# Altium footprint library standard-case.PcbLib: 69 footprints (part 1 of 5)
Each footprint in its own frame and in the unit in brackets; x right, y up, seen from the top. Pads: shape width x height; smd on the part's side, far side on the other; paste and mask are expansions set on the pad; w line width, h text height; cw(c..) or ccw(c..) is an arc to the next point about the centre after c.
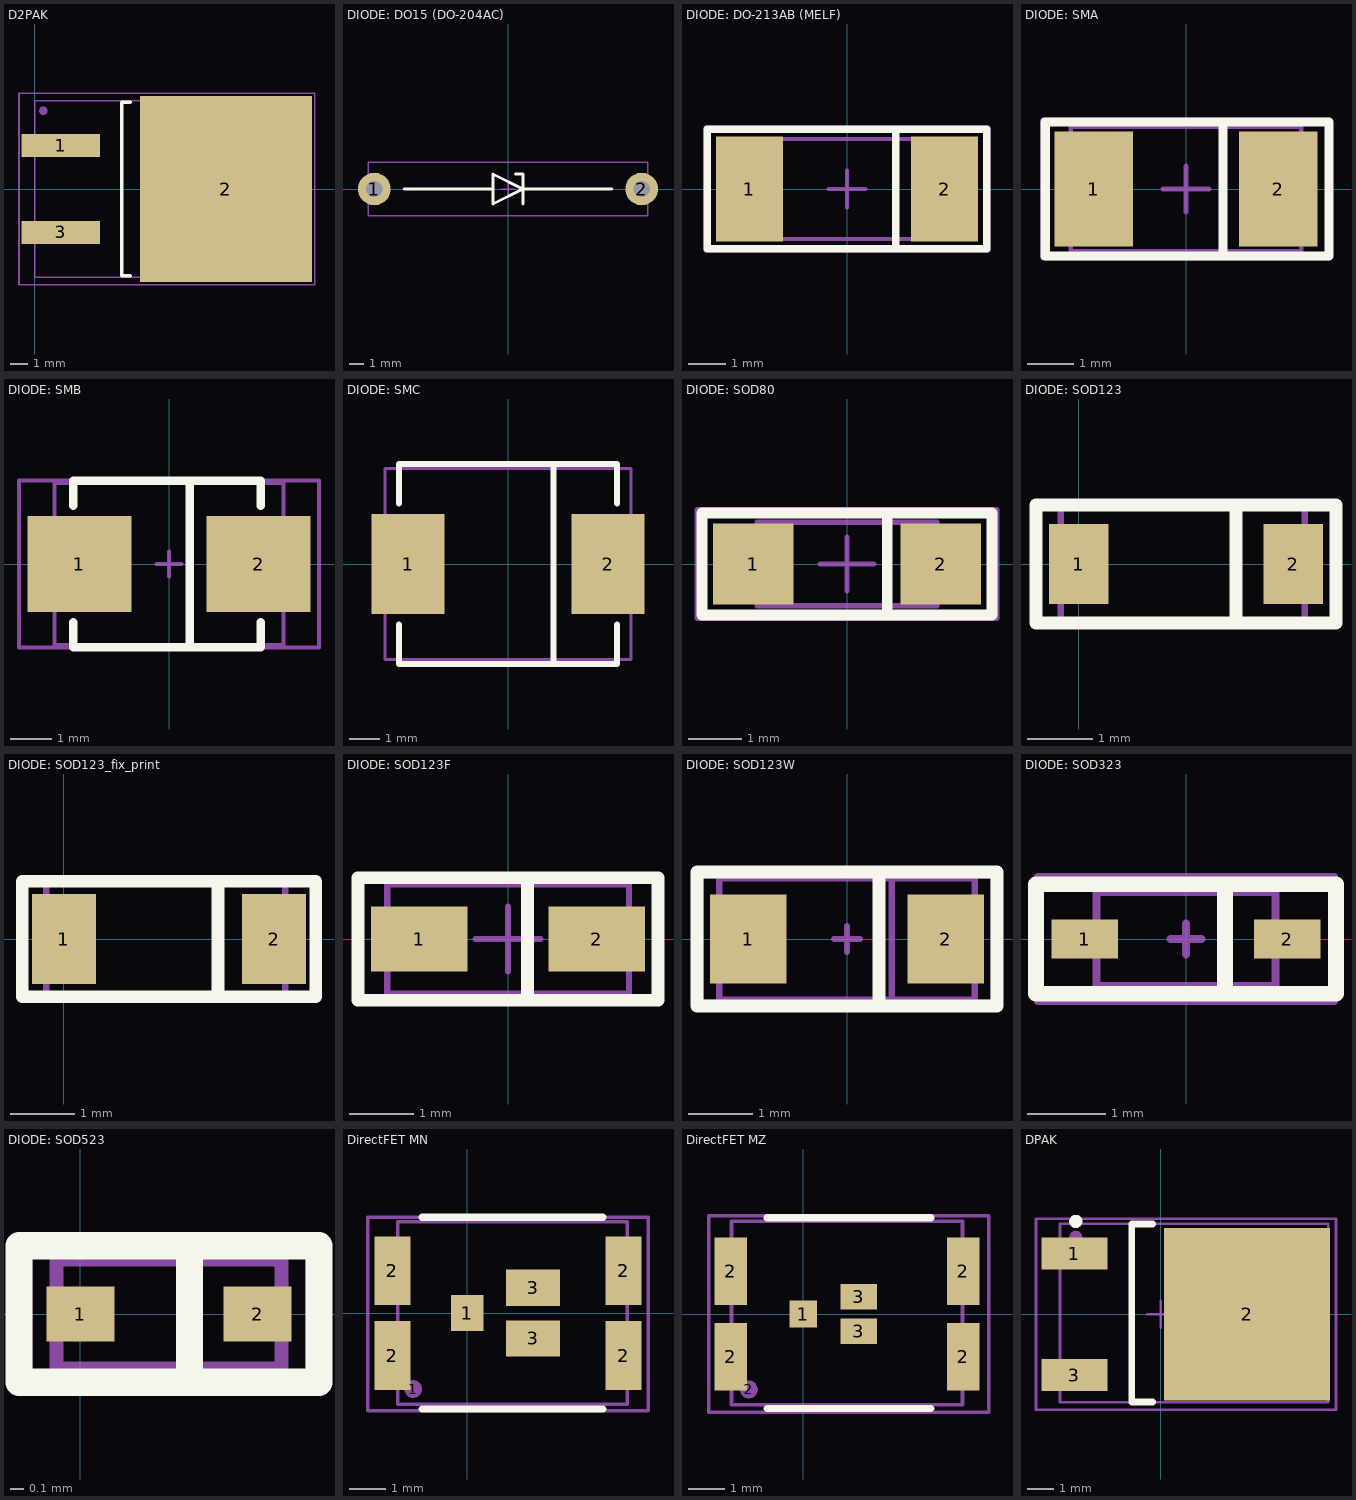
[diagram p0: the footprints below, top view; thin cyan lines are the x and y axes]

## D2PAK [mm]
height 2.38
pads (4):
  rect 4.5x1.3 smd: 1(1.5,2.5) 3(1.5,-2.5)
  rect 9.9x10.7 smd: 2(11,0)
  round 0.5 on Mech1: ""(0.5,4.5)
Top Overlay:
  lines w0.2: 5.5,-5 5,-5 5,5 5.5,5
Mechanical 1:
  lines w0.1: 0,-5.08 15.264,-5.08 15.264,5.08 0,5.08 0,-5.08
Mechanical 15:
  lines w0.1: -0.9,-5.5 16.1,-5.5 16.1,5.5 -0.9,5.5 -0.9,-5.5
3D body "User Library-DPAK.STEP": height 4.88, standoff -0.13, extent 0,-5.08 15.264,5.08

## DIODE: DO15 (DO-204AC) [mm]
pads (2):
  round 2.2 hole 1.1 mask+0.075: 1(-9,0) 2(9,0)
Top Overlay:
  lines w0.2: -7,0 -1,0 -1,1 ; 0.5,1 1,1 1,-1 ; 7,0 1,0 ; -1,1 -1,-1 1,0 ; -1,1 1,0
Mechanical 1:
  lines w0.1: -7,0 -1,0 -1,1 ; 0.5,1 1,1 1,-1 ; 7,0 1,0 ; -1,1 -1,-1 1,0 ; -1,1 1,0 ; -9.4,-1.8 9.4,-1.8 9.4,1.8 -9.4,1.8 -9.4,-1.8
Mechanical 15:
  lines w0.1: -0.5,0 0.5,0 ; 0,-0.5 0,0.5 ; -9.4,-1.8 -9.4,1.8 9.4,1.8 9.4,-1.8 -9.4,-1.8
3D body "User Library-DO-15-70.STEP": height 3.53, standoff -2, extent -9.415,-1.749 9.415,1.748

## DIODE: DO-213AB (MELF) [mm] "MELF Diode, 2-Leads, Body 5,01x2,53mm, IPC Medium Density"
height 2.67
pads (2):
  rect 1.8x2.8 smd: 1(-2.6,0) 2(2.6,0)
Top Overlay:
  lines w0.2: 1.3,-1.6 1.3,1.6 ; -3.725,-1.6 3.725,-1.6 3.725,1.6 -3.725,1.6 -3.725,-1.6
Mechanical 1:
  lines w0.1: -2.605,-1.335 -2.605,1.335 2.605,1.335 2.605,-1.335 -2.605,-1.335
Mechanical 15:
  lines w0.1: -0.5,0 0.5,0 ; 0,-0.5 0,0.5 ; -3.775,-1.65 -3.775,1.65 3.775,1.65 3.775,-1.65 -3.775,-1.65
3D body "User Library-MELF DO213AB.STEP": height 2.6, standoff 0, extent -2.4,-1.3 2.4,1.3

## DIODE: SMA [mm]
pads (3):
  rect 1.7x2.5 smd: 1(-2,0) 2(2,0)
  round 0.5 on Mech1: ""(2,0.9)
Top Overlay:
  lines w0.2: 0.8,-1.45 0.8,1.45 ; -3.05,-1.45 -3.05,1.45 3.1,1.45 3.1,-1.45 -3.05,-1.45
Mechanical 1:
  lines w0.1: -2.5,-1.35 -2.5,1.35 2.5,1.35 2.5,-1.35 -2.5,-1.35
Mechanical 15:
  lines w0.1: -0.5,0 0.5,0 ; 0,-0.5 0,0.5 ; -3.1,-1.5 3.1,-1.5 3.1,1.5 -3.1,1.5 -3.1,-1.5
3D body "User Library-Diode Molded BodyDIOM5025X231N.STEP": height 2.28, standoff -0.03, extent -2.5,-1.35 2.5,1.35

## DIODE: SMB [mm]
pads (2):
  rect 2.5x2.3 smd: 1(-2.15,0) 2(2.15,0)
Top Overlay:
  lines w0.2: -2.3,-1.4 -2.3,-2 2.2,-2 2.2,-1.4 ; -2.3,1.4 -2.3,2 2.2,2 2.2,1.4 ; 0.5,-2 0.5,2
Mechanical 1:
  lines w0.1: 0.5,-1.95 0.5,1.95 ; -2.75,-1.95 -2.75,1.95 2.75,1.95 2.75,-1.95 -2.75,-1.95
Mechanical 15:
  lines w0.1: -0.3,0 0.3,0 ; 0,-0.3 0,0.3 ; -3.6,-2 3.6,-2 3.6,2 -3.6,2 -3.6,-2
3D body "User Library-DIOM5539X24.STEP": height 2.45, standoff 0.03, extent -2.75,-1.95 2.75,1.95

## DIODE: SMC [mm]
pads (2):
  rect 2.4x3.3 smd: 1(-3.3,0) 2(3.3,0)
Top Overlay:
  lines w0.2: -3.6,-2 -3.6,-3.3 3.6,-3.3 3.6,-2 ; -3.6,2 -3.6,3.3 3.6,3.3 3.6,2 ; 1.5,-3.3 1.5,3.3
Mechanical 1:
  lines w0.1: 1.5,-3.15 1.5,3.15 ; -4.064,-3.15 -4.064,3.15 4.064,3.15 4.064,-3.15 -4.064,-3.15
3D body "User Library-DO-214AB(SMC).STEP": height 2.67, standoff 0.03, extent -4.064,-3.15 4.064,3.15

## DIODE: SOD80 [mm]
height 2
pads (2):
  rect 1.5x1.5 smd: 1(-1.75,0) 2(1.75,0)
Top Overlay:
  lines w0.2: 0.75,-0.925 0.75,0.925 ; -2.7,-0.95 2.7,-0.95 2.7,0.95 -2.7,0.95 -2.7,-0.95
Mechanical 1:
  lines w0.1: 0.75,-0.775 0.75,0.775 ; -1.676,-0.775 1.675,-0.775 1.675,0.775 -1.676,0.775 -1.676,-0.775
Mechanical 15:
  lines w0.1: -0.5,0 0.5,0 ; 0,-0.5 0,0.5 ; -2.794,-1.016 -2.794,1.016 2.794,1.016 2.794,-1.016 -2.794,-1.016
3D body "SOD80-2.step": height 1.52, standoff -0.02, extent -1.676,-0.777 1.677,0.762

## DIODE: SOD123 [mm]
pads (2):
  rect 0.91x1.22 smd: 1(0,0) 2(3.275,0)
Top Overlay:
  lines w0.2: 2.4,-0.9 2.4,0.9 ; -0.65,-0.9 -0.65,0.9 3.925,0.9 3.925,-0.9 -0.65,-0.9
Mechanical 1:
  lines w0.1: 2.4,-0.9 2.4,0.9 ; -0.275,-0.9 -0.275,0.9 3.45,0.9 3.45,-0.9 -0.275,-0.9
Mechanical 15:
  lines w0.1: -0.65,-0.9 -0.65,0.9 3.925,0.9 3.925,-0.9 -0.65,-0.9
3D body "User Library-SOD-123.STEP": height 1.25, standoff 0, extent -0.249,-0.8 3.449,0.8

## DIODE: SOD123_fix_print [mm]
pads (2):
  rect 1x1.4 smd: 1(0,0) 2(3.275,0)
Top Overlay:
  lines w0.2: 2.4,-0.9 2.4,0.9 ; -0.65,-0.9 3.925,-0.9 3.925,0.9 -0.65,0.9 -0.65,-0.9
Mechanical 1:
  lines w0.1: 2.4,-0.9 2.4,0.9 ; -0.275,-0.9 3.45,-0.9 3.45,0.9 -0.275,0.9 -0.275,-0.9
Mechanical 15:
  lines w0.1: -0.65,-0.9 3.925,-0.9 3.925,0.9 -0.65,0.9 -0.65,-0.9
3D body "User Library-SOD-123.STEP": height 1.25, standoff 0, extent -0.249,-0.8 3.449,0.8

## DIODE: SOD123F [mm]
height 1
pads (2):
  rect 1.5x1 smd: 1(-1.375,0) 2(1.375,0)
Top Overlay:
  lines w0.2: 0.3,-0.9 0.3,0.925 ; -2.325,-0.95 2.325,-0.95 2.325,0.95 -2.325,0.95 -2.325,-0.95
Mechanical 1:
  lines w0.1: 0.3,-0.85 0.3,0.85 ; -1.875,-0.85 -1.875,0.85 1.875,0.85 1.875,-0.85 -1.875,-0.85
Mechanical 15:
  lines w0.1: -0.5,0 0.5,0 ; 0,-0.5 0,0.5 ; -2.325,-0.95 -2.325,0.95 2.325,0.95 2.325,-0.95 -2.325,-0.95
3D body "SOD123F.STEP": height 1.23, standoff 0.02, extent -1.875,-0.85 1.875,0.85

## DIODE: SOD123W [mm]
pads (2):
  rect 1.2x1.4 smd: 1(-1.55,0) 2(1.55,0)
Top Overlay:
  lines w0.2: 0.5,-1.05 0.5,1.05 ; -2.35,-1.05 2.35,-1.05 2.35,1.05 -2.35,1.05 -2.35,-1.05
Mechanical 1:
  lines w0.1: 0.7,-0.95 0.7,0.95 ; 2,-0.95 -2,-0.95 -2,0.95 2,0.95 ; 2,-0.95 2,-0.95 ; 2,-0.95 2,0.95 ; 2,0.95 2,0.95
Mechanical 15:
  lines w0.1: -0.2,0 0.2,0 ; 0,-0.2 0,0.2 ; -2.3,-1 -2.3,1 2.3,1 2.3,-1 -2.3,-1
3D body "User Library-SOD123W.STEP": height 1.1, standoff -0.01, extent -2,-0.95 2,0.95

## DIODE: SOD323 [mm]
pads (2):
  rect 0.85x0.5 smd: 1(-1.3,0) 2(1.3,0)
Top Overlay:
  lines w0.2: 0.5,-0.7 0.5,0.7 ; -1.925,-0.7 -1.925,0.7 1.925,0.7 1.925,-0.7 -1.925,-0.7
Mechanical 1:
  lines w0.1: 0.5,-0.6 0.5,0.575 ; -1.15,-0.6 1.15,-0.6 1.15,0.6 -1.15,0.6 -1.15,-0.6
Mechanical 15:
  lines w0.1: -0.2,0 0.2,0 ; 0,-0.2 0,0.2 ; -1.9,-0.8 -1.9,0.8 1.9,0.8 1.9,-0.8 -1.9,-0.8
3D body "User Library-1N4148WS.STEP": height 1.04, standoff -0.06, extent -1.15,-0.6 1.15,0.6

## DIODE: SOD523 [mm]
pads (2):
  rect 0.5x0.4 smd: 1(0,0) 2(1.3,0)
Top Overlay:
  lines w0.2: 0.8,-0.4 0.8,0.5 ; -0.45,-0.5 -0.45,0.5 1.75,0.5 1.75,-0.5 -0.45,-0.5
Mechanical 1:
  lines w0.1: 0.8,-0.4 0.8,0.4 ; -0.175,-0.4 1.475,-0.4 1.475,0.4 1.4,0.4 -0.175,0.4 -0.175,-0.4
Mechanical 15:
  lines w0.1: -0.4,-0.5 -0.4,0.5 1.7,0.5 1.7,-0.5 -0.4,-0.5
3D body "User Library-SOD523-2.STEP": height 0.65, standoff 0, extent -0.175,-0.4 1.475,0.4

## DirectFET MN [mm]
pads (8):
  round 0.5 on Mech1: 1(-1.5,-2.1)
  rect 0.9x1 smd: 1(0,0)
  rect 1x1.9 smd: 2(-2.075,-1.175) 2(-2.075,1.175) 2(4.325,-1.175) 2(4.325,1.175)
  rect 1.5x1 smd: 3(1.82,-0.7) 3(1.82,0.7)
Top Overlay:
  lines w0.2: -1.25,-2.65 3.75,-2.65 ; -1.25,2.65 3.75,2.65
Mechanical 1:
  lines w0.1: -1.925,-2.525 -1.925,2.525 4.425,2.525 4.425,-2.525 -1.925,-2.525
Mechanical 15:
  lines w0.1: -2.75,-2.7 -2.75,2.65 5,2.65 5,-1.5 5,-2.7 -2.75,-2.7
3D body "User Library-DirectFET_MX.STEP": height 0.75, standoff 0, extent -1.925,-2.525 4.425,2.525

## DirectFET MZ [mm]
pads (8):
  rect 0.75x0.75 smd: 1(0,0)
  rrect0% 0.9x1.85 smd: 2(-2,-1.175) 2(-2,1.175) 2(4.4,-1.175) 2(4.4,1.175)
  round 0.5 on Mech1: 2(-1.5,-2.075)
  rect 1x0.7 smd: 3(1.525,-0.475) 3(1.525,0.475)
Top Overlay:
  lines w0.2: -1,-2.6 3.5,-2.6 ; -1,2.65 3.5,2.65
Mechanical 1:
  lines w0.1: -1.975,-2.5 4.375,-2.5 4.375,2.55 -1.975,2.55 -1.975,-2.5
Mechanical 15:
  lines w0.1: -2.6,-2.7 -2.6,2.7 5.1,2.7 5.1,-2.7 5,-2.7 -2.6,-2.7
3D body "User Library-DirectFET_MX.STEP": height 0.75, standoff 0, extent -1.975,-2.5 4.375,2.55

## DPAK [mm]
height 2.4
pads (4):
  rect 2.5x1.2 smd: 1(-3.25,2.29) 3(-3.25,-2.29)
  rect 6.25x6.5 smd: 2(3.25,0)
  round 0.5 on Mech1: ""(-3.2,2.9)
Top Overlay:
  circle w0.25: c-3.2,3.5 r0.125
  lines w0.25: -0.3,-3.3 -1.1,-3.3 -1.1,3.4 -0.3,3.4
Mechanical 1:
  lines w0.1: -3.798,-3.317 -3.798,3.417 6.302,3.417 ; -3.798,-3.317 -3.798,-3.317 ; -3.798,-3.317 6.302,-3.317 6.302,3.417 ; 6.302,3.417 6.302,3.417
Mechanical 15:
  lines w0.1: -0.5,0 0.5,0 ; 0,-0.5 0,0.5 ; -4.7,-3.6 6.6,-3.6 6.6,3.6 -4.7,3.6 -4.7,-3.6
3D body "User Library-DPAK_TO-252AA.STEP": height 2.37, standoff -0.03, extent -3.798,-3.317 6.302,3.417